# Altium schematic symbol library TI_Shift_Registers.SchLib: 1 symbol
Pins are listed as number, name and electrical type; pins without a type are passive.

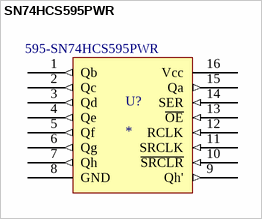
[diagram p0: symbol SN74HCS595PWR]

## SN74HCS595PWR
designator U?  Supplier Part Number 1: 595-SN74HCS595PWR
Serial In Parallel Out, HC Series, 8-Bit, Right Direction, True Output, CMOS, PDSO16; Manufacturer: Texas Instruments; Manufacturer Part Number: SN74HCS595PWR; Supplier 1: Mouser; RoHS: Yes; Category: Shift Registers; Stock 1: 27275; Pricing 1: 1=0.38, 10=0.289, 50=0.289, 100=0.196, 500=0.154, 1000=0.115, 2000=0.099, 10000=0.099 (USD); ComponentLink1Description: Datasheet; ComponentLink1URL: https://www.ti.com/lit/ds/symlink/sn74hcs595.pdf?HQS=dis-mous-null-mousermode-dsf-pf-null-wwe&ts=1691431728667&ref_url=https%253A%252F%252Fwww.mouser.com%252F
footprint TSSOP16_L (Footprint not found)
pins: 1 Qb (out), 2 Qc (out), 3 Qd (out), 4 Qe (out), 5 Qf (out), 6 Qg (out), 7 Qh (out), 8 GND (power), 9 Qh' (out) "Serial Output, can be used for cascading", 10 ~{SRCLR} (in) "Shift Register clear, active low", 11 SRCLK (in) "Shift register clock, rising edge triggered", 12 RCLK (in) "Output register clock, rising edge triggered", 13 ~{OE} (in) "Output Enable, active low", 14 SER (in) "Serial Input", 15 Qa (out) "Qa Output", 16 Vcc (power) "Positive Supply"